# Altium footprint library RF_GPS.PcbLib: 16 footprints
Each footprint in its own frame and in the unit in brackets; x right, y up, seen from the top. Pads: shape width x height; smd on the part's side, far side on the other; paste and mask are expansions set on the pad; w line width, h text height; cw(c..) or ccw(c..) is an arc to the next point about the centre after c.
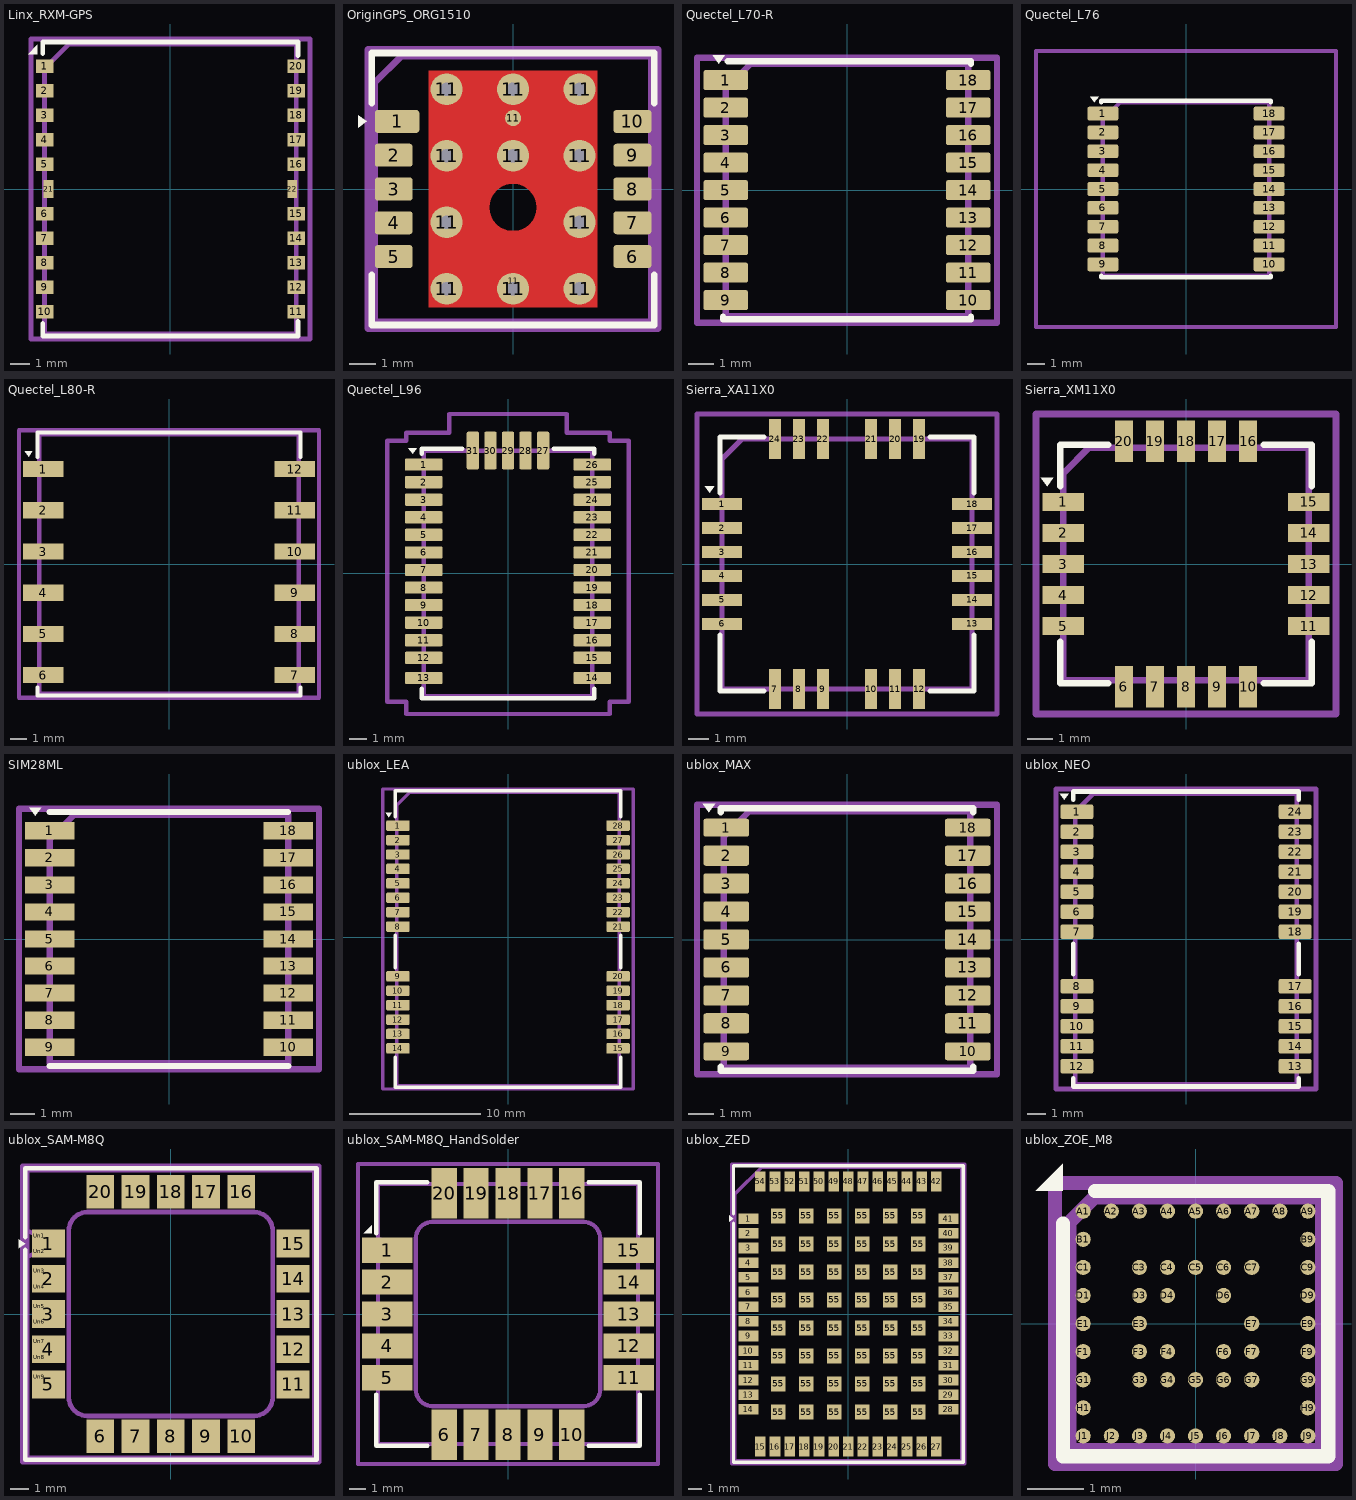
[diagram p0: the footprints below, top view; thin cyan lines are the x and y axes]

## Linx_RXM-GPS [mm]
pads (22):
  rect 0.9x0.7 smd: 1(-6.5,6.35) 2(-6.5,5.08) 3(-6.5,3.81) 4(-6.5,2.54) 5(-6.5,1.27) 6(-6.5,-1.27) 7(-6.5,-2.54) 8(-6.5,-3.81) 9(-6.5,-5.08) 10(-6.5,-6.35) 11(6.5,-6.35) 12(6.5,-5.08) 13(6.5,-3.81) 14(6.5,-2.54) 15(6.5,-1.27) 16(6.5,1.27) 17(6.5,2.54) 18(6.5,3.81) 19(6.5,5.08) 20(6.5,6.35)
  rect 0.5x0.92 smd: 21(-6.3,0) 22(6.3,0)
F.SilkS:
  region: -6.87,6.96 -7.35,6.96 -6.87,7.44
  lines w0.254: -6.6,-6.95 -6.6,-7.6 6.6,-7.6 6.6,-6.85 ; -6.6,7 -6.6,7.6 6.6,7.6 6.6,6.9
F.Fab:
  lines w0.254: -6.5,-7.5 -6.5,6.23 -5.23,7.5 6.5,7.5 6.5,-7.5 -6.5,-7.5
  text "'.Designator'" at -4.047,-0.84 h1
F.CrtYd:
  lines w0.254: -7.2,-7.75 -7.2,7.75 7.2,7.75 7.2,-7.75 -7.2,-7.75
Cmts.User:
  text "Keepout Area" at -4.601,5.673 h1
  text "Only GND" at -2.505,-5.943 h0.8
  text "on the other side" at -4.875,-7.259 h0.8

## OriginGPS_ORG1510 [mm]
pads (23):
  rrect25% 1.676x0.864 smd: 1(-4.362,2.54)
  rrect25% 1.422x0.864 smd: 2(-4.489,1.27) 3(-4.489,0) 4(-4.489,-1.27) 5(-4.489,-2.54) 6(4.489,-2.54) 7(4.489,-1.27) 8(4.489,0) 9(4.489,1.27) 10(4.489,2.54)
  round 1.2 hole 0.5: 11(-2.5,-3.75) 11(-2.5,-1.25) 11(-2.5,1.25) 11(-2.5,3.75) 11(0,-3.75) 11(0,1.25) 11(0,3.75) 11(2.5,-3.75) 11(2.5,-1.25) 11(2.5,1.25) 11(2.5,3.75)
  round 0.5 smd: 11(0,-3.442)
  round 0.6 smd: 11(0,2.665)
F.Cu:
  region: 3.175,-0.698 0.889,-0.698 0.871,-0.512 0.815,-0.334 0.722,-0.171 0.598,-0.032 0.447,0.079 0.276,0.155 0.093,0.194 -0.093,0.194 -0.276,0.155 -0.447,0.079 -0.598,-0.032 -0.722,-0.171 -0.815,-0.334 -0.871,-0.512 -0.889,-0.698 -3.175,-0.698 -3.175,4.445 3.175,4.445
  region: 3.175,-4.445 -3.175,-4.445 -3.175,-0.698 -0.889,-0.698 -0.87,-0.871 -0.819,-1.036 -0.736,-1.188 -0.626,-1.322 -0.491,-1.431 -0.338,-1.512 -0.172,-1.562 0,-1.579 0.172,-1.562 0.338,-1.512 0.491,-1.431 0.626,-1.322 0.736,-1.188 0.819,-1.036 0.87,-0.871 0.889,-0.698 3.175,-0.698
F.SilkS:
  region: -5.5,2.54 -5.83,2.3 -5.83,2.78
  lines w0.254: -5.31,-3.232 -5.31,-5.11 5.31,-5.11 5.31,-3.232 ; -5.31,3.232 -5.31,5.11 5.31,5.11 5.31,3.232
F.Fab:
  lines w0.254: -5.2,-5 -5.2,4 -4.2,5 5.2,5 5.2,-5 -5.2,-5
  text "'.Designator'" at -4.047,-0.84 h1
F.CrtYd:
  lines w0.254: -5.45,-5.25 -5.45,5.25 5.45,5.25 5.45,-5.25 -5.45,-5.25

## Quectel_L70-R [mm]
pads (18):
  rrect25% 1.8x0.8 smd: 1(-4.85,4.4) 2(-4.85,3.3) 3(-4.85,2.2) 4(-4.85,1.1) 5(-4.85,0) 6(-4.85,-1.1) 7(-4.85,-2.2) 8(-4.85,-3.3) 9(-4.85,-4.4) 10(4.85,-4.4) 11(4.85,-3.3) 12(4.85,-2.2) 13(4.85,-1.1) 14(4.85,0) 15(4.85,1.1) 16(4.85,2.2) 17(4.85,3.3) 18(4.85,4.4)
F.SilkS:
  region: -5.14,5.06 -5.38,5.39 -4.9,5.39
  lines w0.254: -4.96,-5.06 -4.96,-5.16 4.96,-5.16 4.96,-5.06 ; -4.77,5.16 4.96,5.16 4.96,5.06
F.Fab:
  lines w0.254: -4.85,-5.05 -4.85,4.05 -3.85,5.05 4.85,5.05 4.85,-5.05 -4.85,-5.05
  text "'.Designator'" at -4.047,-0.84 h1
F.CrtYd:
  lines w0.254: -6,-5.3 -6,5.3 6,5.3 6,-5.3 -6,-5.3

## Quectel_L76 [mm]
pads (18):
  rrect25% 1.8x0.8 smd: 1(-4.85,4.4) 2(-4.85,3.3) 3(-4.85,2.2) 4(-4.85,1.1) 5(-4.85,0) 6(-4.85,-1.1) 7(-4.85,-2.2) 8(-4.85,-3.3) 9(-4.85,-4.4) 10(4.85,-4.4) 11(4.85,-3.3) 12(4.85,-2.2) 13(4.85,-1.1) 14(4.85,0) 15(4.85,1.1) 16(4.85,2.2) 17(4.85,3.3) 18(4.85,4.4)
F.SilkS:
  region: -5.34,5.06 -5.58,5.39 -5.1,5.39
  lines w0.254: -4.95,-5.07 -4.95,-5.15 4.95,-5.15 4.95,-5.07 ; -4.95,5.07 -4.95,5.15 4.95,5.15 4.95,5.07
F.Fab:
  lines w0.254: -4.85,-5.05 -4.85,4.05 -3.85,5.05 4.85,5.05 4.85,-5.05 -4.85,-5.05
  text "'.Designator'" at -4.047,-0.84 h1
F.CrtYd:
  lines w0.254: -8.75,-8.05 -8.75,8.05 8.75,8.05 8.75,-8.05 -8.75,-8.05

## Quectel_L80-R [mm]
pads (12):
  rect 2.5x1 smd: 1(-7.75,5.85) 2(-7.75,3.31) 3(-7.75,0.77) 4(-7.75,-1.77) 5(-7.75,-4.31) 6(-7.75,-6.85) 7(7.75,-6.85) 8(7.75,-4.31) 9(7.75,-1.77) 10(7.75,0.77) 11(7.75,3.31) 12(7.75,5.85)
F.SilkS:
  region: -8.66,6.61 -8.9,6.94 -8.42,6.94
  lines w0.254: -8.11,-7.61 -8.11,-8.11 8.11,-8.11 8.11,-7.61 ; -8.11,6.61 -8.11,8.11 8.11,8.11 8.11,6.61
F.Fab:
  lines w0.254: -8,-8 -8,8 8,8 8,-8 -8,-8
  text "'.Designator'" at -4.047,-2.872 h1
F.CrtYd:
  lines w0.254: -9.25,-8.25 -9.25,8.25 9.25,8.25 9.25,-8.25 -9.25,-8.25
Cmts.User:
  text "Keepout" at -1.75,0.263 h0.4

## Quectel_L96 [mm]
pads (31):
  rrect25% 2.15x0.7 smd: 1(-4.8,6.2) 2(-4.8,5.2) 3(-4.8,4.2) 4(-4.8,3.2) 5(-4.8,2.2) 6(-4.8,1.2) 7(-4.8,0.2) 8(-4.8,-0.8) 9(-4.8,-1.8) 10(-4.8,-2.8) 11(-4.8,-3.8) 12(-4.8,-4.8) 13(-4.8,-5.95) 14(4.8,-5.95) 15(4.8,-4.8) 16(4.8,-3.8) 17(4.8,-2.8) 18(4.8,-1.8) 19(4.8,-0.8) 20(4.8,0.2) 21(4.8,1.2) 22(4.8,2.2) 23(4.8,3.2) 24(4.8,4.2) 25(4.8,5.2) 26(4.8,6.2)
  rrect25% 0.7x2.15 smd: 27(2,7) 28(1,7) 29(0,7) 30(-1,7) 31(-2,7)
F.SilkS:
  region: -5.43,6.81 -5.67,7.14 -5.19,7.14
  lines w0.254: -4.91,-6.56 -4.91,-7.11 4.91,-7.11 4.91,-6.56 ; -4.91,6.81 -4.91,7.11 -2.61,7.11 ; 2.61,7.11 4.91,7.11 4.91,6.81
F.Fab:
  lines w0.254: -4.8,-7 -4.8,7 4.8,7 4.8,-7 -4.8,-7
  text "'.Designator'" at 0.84,-4.047 h1
F.CrtYd:
  lines w0.254: -6.88,-7.3 -6.88,7.55 -5.8,7.55 -5.8,8 -3.35,8 -3.35,9.08 3.35,9.08 3.35,8 5.8,8 5.8,7.55 6.88,7.55 6.88,-7.3 5.8,-7.3 5.8,-8 -5.8,-8 -5.8,-7.3 -6.88,-7.3

## Sierra_XA11X0 [mm]
pads (24):
  rect 2x0.6 smd: 1(-6.25,3) 2(-6.25,1.8) 3(-6.25,0.6) 4(-6.25,-0.6) 5(-6.25,-1.8) 6(-6.25,-3) 13(6.25,-3) 14(6.25,-1.8) 15(6.25,-0.6) 16(6.25,0.6) 17(6.25,1.8) 18(6.25,3)
  rect 0.6x2 smd: 7(-3.6,-6.25) 8(-2.4,-6.25) 9(-1.2,-6.25) 10(1.2,-6.25) 11(2.4,-6.25) 12(3.6,-6.25) 19(3.6,6.25) 20(2.4,6.25) 21(1.2,6.25) 22(-1.2,6.25) 23(-2.4,6.25) 24(-3.6,6.25)
F.SilkS:
  region: -6.87,3.56 -7.11,3.89 -6.63,3.89
  lines w0.254: -6.36,-3.56 -6.36,-6.36 -4.16,-6.36 ; -6.36,3.56 -6.36,6.36 -4.16,6.36 ; 4.16,-6.36 6.36,-6.36 6.36,-3.56 ; 4.16,6.36 6.36,6.36 6.36,3.56
F.Fab:
  lines w0.254: -6.25,-6.25 -6.25,5.25 -5.25,6.25 6.25,6.25 6.25,-6.25 -6.25,-6.25
  text "'.Designator'" at -4.047,-0.84 h1
F.CrtYd:
  lines w0.254: -7.5,-7.5 -7.5,7.5 7.5,7.5 7.5,-7.5 -7.5,-7.5

## Sierra_XM11X0 [mm]
pads (20):
  rect 1.6x0.7 smd: 1(-4.75,2.4) 2(-4.75,1.2) 3(-4.75,0) 4(-4.75,-1.2) 5(-4.75,-2.4) 11(4.75,-2.4) 12(4.75,-1.2) 13(4.75,0) 14(4.75,1.2) 15(4.75,2.4)
  rect 0.7x1.6 smd: 6(-2.4,-4.75) 7(-1.2,-4.75) 8(0,-4.75) 9(1.2,-4.75) 10(2.4,-4.75) 16(2.4,4.75) 17(1.2,4.75) 18(0,4.75) 19(-1.2,4.75) 20(-2.4,4.75)
F.SilkS:
  region: -5.37,3.01 -5.61,3.34 -5.13,3.34
  lines w0.254: -4.86,-3.01 -4.86,-4.61 -3.01,-4.61 ; -4.86,3.01 -4.86,4.61 -3.01,4.61 ; 3.01,-4.61 4.86,-4.61 4.86,-3.01 ; 3.01,4.61 4.86,4.61 4.86,3.01
F.Fab:
  lines w0.254: -4.75,-4.5 -4.75,3.5 -3.75,4.5 4.75,4.5 4.75,-4.5 -4.75,-4.5
  text "'.Designator'" at -4.047,-0.84 h1
F.CrtYd:
  lines w0.254: -5.8,-5.8 -5.8,5.8 5.8,5.8 5.8,-5.8 -5.8,-5.8

## SIM28ML [mm]
pads (18):
  rect 2x0.7 smd: 1(-4.85,4.4) 2(-4.85,3.3) 3(-4.85,2.2) 4(-4.85,1.1) 5(-4.85,0) 6(-4.85,-1.1) 7(-4.85,-2.2) 8(-4.85,-3.3) 9(-4.85,-4.4) 10(4.85,-4.4) 11(4.85,-3.3) 12(4.85,-2.2) 13(4.85,-1.1) 14(4.85,0) 15(4.85,1.1) 16(4.85,2.2) 17(4.85,3.3) 18(4.85,4.4)
F.SilkS:
  region: -5.44,5.01 -5.68,5.34 -5.2,5.34
  lines w0.254: -4.86,5.16 4.84,5.16 ; -4.85,-5.16 4.85,-5.16
F.Fab:
  lines w0.254: -4.85,-5.05 -4.85,4.05 -3.85,5.05 4.85,5.05 4.85,-5.05 -4.85,-5.05
  text "'.Designator'" at -4.047,-0.84 h1
F.CrtYd:
  lines w0.254: -6.1,-5.3 -6.1,5.3 6.1,5.3 6.1,-5.3 -6.1,-5.3

## ublox_LEA [mm]
pads (28):
  rrect25% 1.8x0.8 smd: 1(-8.4,8.5) 2(-8.4,7.4) 3(-8.4,6.3) 4(-8.4,5.2) 5(-8.4,4.1) 6(-8.4,3) 7(-8.4,1.9) 8(-8.4,0.8) 9(-8.4,-3) 10(-8.4,-4.1) 11(-8.4,-5.2) 12(-8.4,-6.3) 13(-8.4,-7.4) 14(-8.4,-8.5) 15(8.4,-8.5) 16(8.4,-7.4) 17(8.4,-6.3) 18(8.4,-5.2) 19(8.4,-4.1) 20(8.4,-3) 21(8.4,0.8) 22(8.4,1.9) 23(8.4,3) 24(8.4,4.1) 25(8.4,5.2) 26(8.4,6.3) 27(8.4,7.4) 28(8.4,8.5)
F.SilkS:
  region: -9.1,9.16 -9.34,9.49 -8.86,9.49
  lines w0.254: -8.61,-9.16 -8.61,-11.46 8.61,-11.46 8.61,-9.16 ; -8.61,-2.34 -8.61,0.14 ; -8.61,9.16 -8.61,11.16 8.61,11.16 8.61,9.16 ; 8.61,-2.34 8.61,0.14
F.Fab:
  lines w0.254: -8.5,-11.35 8.5,-11.35 8.5,11.05 -7.5,11.05 -8.5,10.05 -8.5,-11.34
  text "'.Designator'" at -4.047,-0.84 h1
F.CrtYd:
  lines w0.254: -9.55,-11.6 -9.55,11.3 9.55,11.3 9.55,-11.6 -9.55,-11.6

## ublox_MAX [mm]
pads (18):
  rrect25% 1.8x0.7 smd: 1(-4.75,4.4) 9(-4.75,-4.4) 10(4.75,-4.4) 18(4.75,4.4)
  rrect25% 1.8x0.8 smd: 2(-4.75,3.3) 3(-4.75,2.2) 4(-4.75,1.1) 5(-4.75,0) 6(-4.75,-1.1) 7(-4.75,-2.2) 8(-4.75,-3.3) 11(4.75,-3.3) 12(4.75,-2.2) 13(4.75,-1.1) 14(4.75,0) 15(4.75,1.1) 16(4.75,2.2) 17(4.75,3.3)
F.SilkS:
  region: -5.43,5.01 -5.67,5.34 -5.19,5.34
  lines w0.254: -4.96,-5.01 -4.96,-5.16 4.96,-5.16 4.96,-5.01 ; -4.96,5.01 -4.96,5.16 4.96,5.16 4.96,5.01
F.Fab:
  lines w0.254: -4.85,-5.05 -4.85,4.05 -3.85,5.05 4.85,5.05 4.85,-5.05 -4.85,-5.05
  text "'.Designator'" at -4.047,-0.84 h1
F.CrtYd:
  lines w0.254: -5.9,-5.3 -5.9,5.3 5.9,5.3 5.9,-5.3 -5.9,-5.3

## ublox_NEO [mm]
pads (24):
  rrect25% 1.8x0.8 smd: 1(-6,7) 2(-6,5.9) 3(-6,4.8) 4(-6,3.7) 5(-6,2.6) 6(-6,1.5) 7(-6,0.4) 8(-6,-2.6) 9(-6,-3.7) 10(-6,-4.8) 11(-6,-5.9) 12(-6,-7) 13(6,-7) 14(6,-5.9) 15(6,-4.8) 16(6,-3.7) 17(6,-2.6) 18(6,0.4) 19(6,1.5) 20(6,2.6) 21(6,3.7) 22(6,4.8) 23(6,5.9) 24(6,7)
F.SilkS:
  region: -6.7,7.66 -6.94,7.99 -6.46,7.99
  lines w0.254: -6.21,-7.66 -6.21,-8.11 6.21,-8.11 ; -6.21,-1.94 -6.21,-0.26 ; -6.21,7.66 -6.21,8.11 6.21,8.11 6.21,7.66 ; 6.21,-8.1 6.21,-7.66 ; 6.21,-1.94 6.21,-0.26
F.Fab:
  lines w0.254: -6.1,-8 -6.1,7 -5.1,8 6.1,8 6.1,-8 -6.1,-8
  text "'.Designator'" at -4.047,-0.84 h1
F.CrtYd:
  lines w0.254: -7.15,-8.25 -7.15,8.25 7.15,8.25 7.15,-8.25 -7.15,-8.25

## ublox_SAM-M8Q [mm]
pads (100):
  rect 1.8x1.5 smd: 1(-6.6,3.8) 2(-6.6,1.9) 3(-6.6,0) 4(-6.6,-1.9) 5(-6.6,-3.8) 11(6.6,-3.8) 12(6.6,-1.9) 13(6.6,0) 14(6.6,1.9) 15(6.6,3.8)
  rect 1.5x1.8 smd: 6(-3.8,-6.6) 7(-1.9,-6.6) 8(0,-6.6) 9(1.9,-6.6) 10(3.8,-6.6) 16(3.8,6.6) 17(1.9,6.6) 18(0,6.6) 19(-1.9,6.6) 20(-3.8,6.6)
  rect 0.72x0.58 on Top Paste: Un1(-7.1,4.225) Un2(-7.1,3.375) Un3(-7.1,2.325) Un4(-7.1,1.475) Un5(-7.1,0.425) Un6(-7.1,-0.425) Un7(-7.1,-1.475) Un8(-7.1,-2.325) Un9(-7.1,-3.375) Un10(-7.1,-4.225) Un11(-6.1,4.225) Un12(-6.1,3.375) Un13(-6.1,2.325) Un14(-6.1,1.475) Un15(-6.1,0.425) Un16(-6.1,-0.425) Un17(-6.1,-1.475) Un18(-6.1,-2.325) Un19(-6.1,-3.375) Un20(-6.1,-4.225) Un61(6.1,4.225) Un62(6.1,3.375) Un63(6.1,2.325) Un64(6.1,1.475) Un65(6.1,0.425) Un66(6.1,-0.425) Un67(6.1,-1.475) Un68(6.1,-2.325) Un69(6.1,-3.375) Un70(6.1,-4.225) Un71(7.1,4.225) Un72(7.1,3.375) Un73(7.1,2.325) Un74(7.1,1.475) Un75(7.1,0.425) Un76(7.1,-0.425) Un77(7.1,-1.475) Un78(7.1,-2.325) Un79(7.1,-3.375) Un80(7.1,-4.225)
  rect 0.58x0.72 on Top Paste: Un21(-4.225,7.1) Un22(-4.225,6.1) Un23(-4.225,-6.1) Un24(-4.225,-7.1) Un25(-3.375,7.1) Un26(-3.375,6.1) Un27(-3.375,-6.1) Un28(-3.375,-7.1) Un29(-2.325,7.1) Un30(-2.325,6.1) Un31(-2.325,-6.1) Un32(-2.325,-7.1) Un33(-1.475,7.1) Un34(-1.475,6.1) Un35(-1.475,-6.1) Un36(-1.475,-7.1) Un37(-0.425,7.1) Un38(-0.425,6.1) Un39(-0.425,-6.1) Un40(-0.425,-7.1) Un41(0.425,7.1) Un42(0.425,6.1) Un43(0.425,-6.1) Un44(0.425,-7.1) Un45(1.475,7.1) Un46(1.475,6.1) Un47(1.475,-6.1) Un48(1.475,-7.1) Un49(2.325,7.1) Un50(2.325,6.1) Un51(2.325,-6.1) Un52(2.325,-7.1) Un53(3.375,7.1) Un54(3.375,6.1) Un55(3.375,-6.1) Un56(3.375,-7.1) Un57(4.225,7.1) Un58(4.225,6.1) Un59(4.225,-6.1) Un60(4.225,-7.1)
F.SilkS:
  region: -7.86,3.8 -8.19,3.56 -8.19,4.04
  lines w0.254: -7.86,3.45 -7.86,-7.86 7.86,-7.86 7.86,7.86 -7.86,7.86 -7.86,4.15
F.Fab:
  lines w0.254: -7.75,3.1 -6,3.8 -7.75,4.5 ; -7.75,-7.75 -7.75,7.75 7.75,7.75 7.75,-7.75 -7.75,-7.75 ; -5.5,-4.5 -5.5,4.5 cw(c-4.5,4.5) -4.5,5.5 4.5,5.5 cw(c4.5,4.5) 5.5,4.5 5.5,-4.5 cw(c4.5,-4.5) 4.5,-5.5 -4.5,-5.5 cw(c-4.5,-4.5) -5.5,-4.5
  text "'.Designator'" at -4.047,-0.84 h1
F.CrtYd:
  lines w0.254: -8,-8 -8,8 8,8 8,-8 -8,-8

## ublox_SAM-M8Q_HandSolder [mm]
pads (20):
  rect 3x1.5 smd: 1(-7.2,3.8) 2(-7.2,1.9) 3(-7.2,0) 4(-7.2,-1.9) 5(-7.2,-3.8) 11(7.2,-3.8) 12(7.2,-1.9) 13(7.2,0) 14(7.2,1.9) 15(7.2,3.8)
  rect 1.5x3 smd: 6(-3.8,-7.2) 7(-1.9,-7.2) 8(0,-7.2) 9(1.9,-7.2) 10(3.8,-7.2) 16(3.8,7.2) 17(1.9,7.2) 18(0,7.2) 19(-1.9,7.2) 20(-3.8,7.2)
F.SilkS:
  region: -8.14,4.81 -8.62,4.81 -8.14,5.29
  lines w0.254: -7.86,-4.81 -7.86,-7.86 -4.81,-7.86 ; -7.86,4.82 -7.86,7.86 -4.82,7.86 ; 4.81,-7.86 7.86,-7.86 7.86,-4.81 ; 4.81,7.86 7.86,7.86 7.86,4.81
F.Fab:
  lines w0.254: -7.75,3.1 -6,3.8 -7.75,4.5 ; -7.75,-7.75 -7.75,7.75 7.75,7.75 7.75,-7.75 -7.75,-7.75 ; -5.5,-4.5 -5.5,4.5 cw(c-4.5,4.5) -4.5,5.5 4.5,5.5 cw(c4.5,4.5) 5.5,4.5 5.5,-4.5 cw(c4.5,-4.5) 4.5,-5.5 -4.5,-5.5 cw(c-4.5,-4.5) -5.5,-4.5
  text "'.Designator'" at -4.047,-0.84 h1
F.CrtYd:
  lines w0.254: -8.95,-8.95 -8.95,8.95 8.95,8.95 8.95,-8.95 -8.95,-8.95

## ublox_ZED [mm]
pads (102):
  rect 1.5x0.8 smd: 1(-7.5,7.15) 2(-7.5,6.05) 3(-7.5,4.95) 4(-7.5,3.85) 5(-7.5,2.75) 6(-7.5,1.65) 7(-7.5,0.55) 8(-7.5,-0.55) 9(-7.5,-1.65) 10(-7.5,-2.75) 11(-7.5,-3.85) 12(-7.5,-4.95) 13(-7.5,-6.05) 14(-7.5,-7.15) 28(7.5,-7.15) 29(7.5,-6.05) 30(7.5,-4.95) 31(7.5,-3.85) 32(7.5,-2.75) 33(7.5,-1.65) 34(7.5,-0.55) 35(7.5,0.55) 36(7.5,1.65) 37(7.5,2.75) 38(7.5,3.85) 39(7.5,4.95) 40(7.5,6.05) 41(7.5,7.15)
  rect 0.8x1.5 smd: 15(-6.6,-9.95) 16(-5.5,-9.95) 17(-4.4,-9.95) 18(-3.3,-9.95) 19(-2.2,-9.95) 20(-1.1,-9.95) 21(0,-9.95) 22(1.1,-9.95) 23(2.2,-9.95) 24(3.3,-9.95) 25(4.4,-9.95) 26(5.5,-9.95) 27(6.6,-9.95) 42(6.6,9.95) 43(5.5,9.95) 44(4.4,9.95) 45(3.3,9.95) 46(2.2,9.95) 47(1.1,9.95) 48(0,9.95) 49(-1.1,9.95) 50(-2.2,9.95) 51(-3.3,9.95) 52(-4.4,9.95) 53(-5.5,9.95) 54(-6.6,9.95)
  rect 1.1x1.1 smd: 55(-5.25,-7.35) 55(-5.25,-5.25) 55(-5.25,-3.15) 55(-5.25,-1.05) 55(-5.25,1.05) 55(-5.25,3.15) 55(-5.25,5.25) 55(-5.25,7.35) 55(-3.15,-7.35) 55(-3.15,-5.25) 55(-3.15,-3.15) 55(-3.15,-1.05) 55(-3.15,1.05) 55(-3.15,3.15) 55(-3.15,5.25) 55(-3.15,7.35) 55(-1.05,-7.35) 55(-1.05,-5.25) 55(-1.05,-3.15) 55(-1.05,-1.05) 55(-1.05,1.05) 55(-1.05,3.15) 55(-1.05,5.25) 55(-1.05,7.35) 55(1.05,-7.35) 55(1.05,-5.25) 55(1.05,-3.15) 55(1.05,-1.05) 55(1.05,1.05) 55(1.05,3.15) 55(1.05,5.25) 55(1.05,7.35) 55(3.15,-7.35) 55(3.15,-5.25) 55(3.15,-3.15) 55(3.15,-1.05) 55(3.15,1.05) 55(3.15,3.15) 55(3.15,5.25) 55(3.15,7.35) 55(5.25,-7.35) 55(5.25,-5.25) 55(5.25,-3.15) 55(5.25,-1.05) 55(5.25,1.05) 55(5.25,3.15) 55(5.25,5.25) 55(5.25,7.35)
F.SilkS:
  region: -8.61,7.15 -8.94,6.91 -8.94,7.39
  lines w0.254: -8.61,6.8 -8.61,-11.11 8.61,-11.11 8.61,11.11 -8.61,11.11 -8.61,7.5
F.Fab:
  lines w0.254: -8.5,-11 -8.5,9 -6.5,11 8.5,11 8.5,-11 -8.5,-11
  text "'.Designator'" at -4.047,-0.84 h1
F.CrtYd:
  lines w0.254: -8.75,-11.25 -8.75,11.25 8.75,11.25 8.75,-11.25 -8.75,-11.25

## ublox_ZOE_M8 [mm]
pads (51):
  round 0.27 smd: A1(-2,2) A2(-1.5,2) A3(-1,2) A4(-0.5,2) A5(0,2) A6(0.5,2) A7(1,2) A8(1.5,2) A9(2,2) B1(-2,1.5) B9(2,1.5) C1(-2,1) C3(-1,1) C4(-0.5,1) C5(0,1) C6(0.5,1) C7(1,1) C9(2,1) D1(-2,0.5) D3(-1,0.5) D4(-0.5,0.5) D6(0.5,0.5) D9(2,0.5) E1(-2,0) E3(-1,0) E7(1,0) E9(2,0) F1(-2,-0.5) F3(-1,-0.5) F4(-0.5,-0.5) F6(0.5,-0.5) F7(1,-0.5) F9(2,-0.5) G1(-2,-1) G3(-1,-1) G4(-0.5,-1) G5(0,-1) G6(0.5,-1) G7(1,-1) G9(2,-1) H1(-2,-1.5) H9(2,-1.5) J1(-2,-2) J2(-1.5,-2) J3(-1,-2) J4(-0.5,-2) J5(0,-2) J6(0.5,-2) J7(1,-2) J8(1.5,-2) J9(2,-2)
F.SilkS:
  region: -2.36,2.36 -2.84,2.36 -2.36,2.84
  lines w0.254: -2.36,1.78 -2.36,-2.36 2.36,-2.36 2.36,2.36 -1.79,2.36
F.Fab:
  lines w0.254: -2.25,-2.25 -2.25,1.8 -1.8,2.25 2.25,2.25 2.25,-2.25 -2.25,-2.25
  text "'.Designator'" at -4.047,-0.84 h1
F.CrtYd:
  lines w0.254: -2.5,-2.5 -2.5,2.5 2.5,2.5 2.5,-2.5 -2.5,-2.5